# EAGLE library part A2135-H (library Modules)
GPS Modules SiRFStarIV GPS Flash Based CGEE User Manual <http://update.maestro-wireless.com/Technical%20Documentation/GPS%20Line/A2135-H/GPS_Receiver_A2135_H_usermanual_V02.pdf>
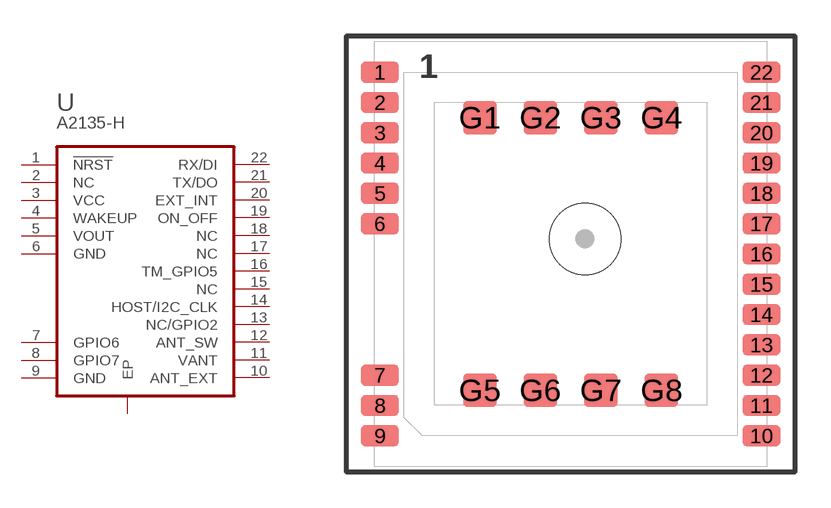
[diagram p5: symbol with the pads of A2135-H; footprint A2135-H]

Designator prefix U

## A2135-H (PARTNO: A2135-H)  [A2135-H]
1  !NRST  in
2  NC  nc
3  VCC  pwr
4  WAKEUP  out
5  VOUT  sup
6  GND  pwr
7  GPIO6  in
8  GPIO7  in
9  GND  pwr
10  ANT_EXT  pas
11  VANT  pwr
12  ANT_SW  in
13  NC/GPIO2  nc
14  HOST/I2C_CLK  in
15  NC  nc
16  TM_GPIO5  out
17  NC  nc
18  NC  nc
19  ON_OFF  in
20  EXT_INT  in
21  TX/DO  out
22  RX/DI  in
G1  EP  pwr
G2  EP  pwr
G3  EP  pwr
G4  EP  pwr
G5  EP  pwr
G6  EP  pwr
G7  EP  pwr
G8  EP  pwr

## Footprint A2135-H (pad centres in mm)
GPS Modules SiRFStarIV GPS Flash Based CGEE User Manual <http://update.maestro-wireless.com/Technical%20Documentation/GPS%20Line/A2135-H/GPS_Receiver_A2135_H_usermanual_V02.pdf>
smd 1.6 x 0.9: 1 -8.001,7.62; 2 -8.001,6.35; 3 -8.001,5.08; 4 -8.001,3.81; 5 -8.001,2.54; 6 -8.001,1.27; 7 -8.001,-5.08; 8 -8.001,-6.35; 9 -8.001,-7.62; 10 8.001,-7.62; 11 8.001,-6.35; 12 8.001,-5.08; 13 8.001,-3.81; 14 8.001,-2.54; 15 8.001,-1.27; 16 8.001,0; 17 8.001,1.27; 18 8.001,2.54; 19 8.001,3.81; 20 8.001,5.08; 21 8.001,6.35; 22 8.001,7.62
smd 1.4 x 1.4: G1 -3.81,5.715; G2 -1.27,5.715; G3 1.27,5.715; G4 3.81,5.715; G5 -3.81,-5.715; G6 -1.27,-5.715; G7 1.27,-5.715; G8 3.81,-5.715
hole 3 at 0.605,0.63